# Altium footprint library Molex.PcbLib: 2 footprints
Each footprint in its own frame and in the unit in brackets; x right, y up, seen from the top. Pads: shape width x height; smd on the part's side, far side on the other; paste and mask are expansions set on the pad; w line width, h text height; cw(c..) or ccw(c..) is an arc to the next point about the centre after c.
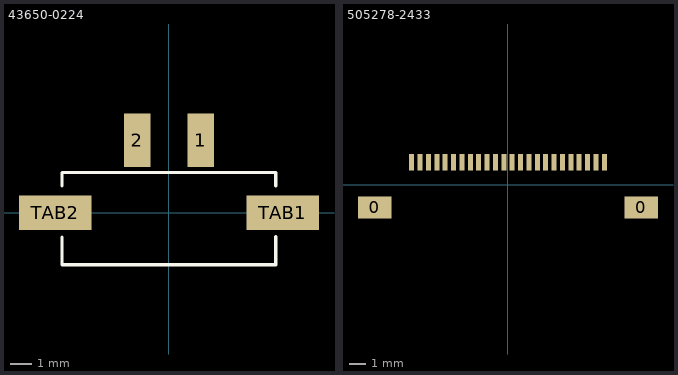
[diagram p0: the footprints below, top view; thin cyan lines are the x and y axes]

## 43650-0224 [mil]
pads (4):
  rect 50x100 smd: 1(60,136) 2(-59.06,136)
  rect 136x65 smd: TAB1(213,0) TAB2(-212.2,0)
Top Overlay:
  lines w5.91: -199.8,-45.2 -199.8,-97.24 200,-97.24 200,-45 ; -199.8,50.2 -199.8,75 200,75 200,50
3D body "436500224.stp": height 391.73, standoff 0.79, extent -267.63,-97.24 269.77,161.42

## 505278-2433 [mm]
height 4
pads (26):
  rect 2x1.3 smd mask+0.05: 0(-7.95,-1.35) 0(7.95,-1.35)
  rect 0.3x1 smd mask+0.05: 1(-5.75,1.35) 2(-5.25,1.35) 3(-4.75,1.35) 4(-4.25,1.35) 5(-3.75,1.35) 6(-3.25,1.35) 7(-2.75,1.35) 8(-2.25,1.35) 9(-1.75,1.35) 10(-1.25,1.35) 11(-0.75,1.35) 12(-0.25,1.35) 13(0.25,1.35) 14(0.75,1.35) 15(1.25,1.35) 16(1.75,1.35) 17(2.25,1.35) 18(2.75,1.35) 19(3.25,1.35) 20(3.75,1.35) 21(4.25,1.35) 22(4.75,1.35) 23(5.25,1.35) 24(5.75,1.35)
3D body "5052782433.stp": height 1.88, standoff -0.02, extent -8.75,-3.7 8.75,1.6